# Altium footprint library TVR.PcbLib: 17 footprints (part 2 of 2)
Each footprint in its own frame and in the unit in brackets; x right, y up, seen from the top. Pads: shape width x height; smd on the part's side, far side on the other; paste and mask are expansions set on the pad; w line width, h text height; cw(c..) or ccw(c..) is an arc to the next point about the centre after c.
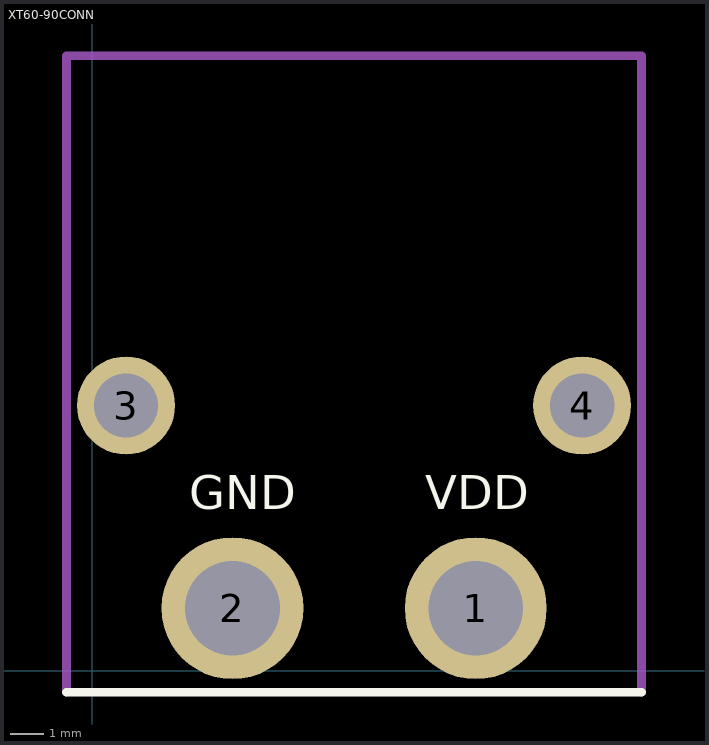
[diagram p1: the footprint, top view; thin cyan lines are the x and y axes]

## XT60-90CONN [mm]
pads (4):
  round 4.2 hole 2.8: 1(11.35,1.85) 2(4.15,1.85)
  round 2.9 hole 1.9: 3(1,7.85) 4(14.5,7.85)
Top Overlay:
  lines w0.254: -0.762,-0.635 16.256,-0.635
  text "VDD" at 9.852,4.772 h1
  text "GND" at 2.867,4.772 h1
Mechanical 13:
  lines w0.254: -0.762,-0.635 -0.762,18.2 16.256,18.2 16.256,-0.635